# EAGLE library part WSEN-PADS_25110202133011 (library WSEN)
WSEN-PADS - 2511020213301 Absolute Pressure Sensor Details see: https://www.we-online.com/katalog/en/WSEN-PADS
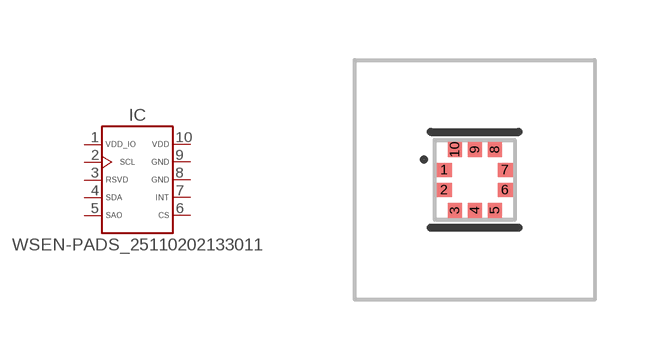
[diagram p3: symbol with the pads of WSEN-PADS_2511020213301; footprint WSEN-PADS_2511020213301]

Designator prefix IC

## WSEN-PADS_25110202133011 (DATASHEET: https://www.we-online.com/redexpert/spec/25110202133011?ae; HEIGHT: 0.8mm; MANUFACTURER: Würth Elektronik; MOUNT: SMT; PART-NUMBER: 25110202133011; VALUE: 25110202133011)  [WSEN-PADS_2511020213301]
1  VDD_IO  pwr
2  SCL  in
3  RSVD
4  SDA
5  SAO
6  CS  in
7  INT  out
8  GND  pwr
9  GND  pwr
10  VDD  pwr

## Footprint WSEN-PADS_2511020213301 (pad centres in mm)
WSEN-PADS Absolute Pressure Sensor SMT, 10pins LXWXH=2mmX2mmX0.8mm
smd 0.375 x 0.35: 1 -0.762,0.25; 2 -0.762,-0.25; 6 0.762,-0.25; 7 0.762,0.25
smd 0.35 x 0.375: 3 -0.5,-0.762; 4 0,-0.762; 5 0.5,-0.762; 8 0.5,0.762; 9 0,0.762; 10 -0.5,0.762